# Altium schematic symbol library Crystal_SMD3225_4P.SchLib: 1 symbol
Pins are listed as number, name and electrical type; pins without a type are passive.

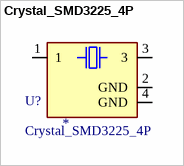
[diagram p0: symbol Crystal_SMD3225_4P]

## Crystal_SMD3225_4P
designator U?
SMD3225-4P Crystals ROHS; LCSC: *
footprint Crystal_SMD3225_4P
pins: 1, 2 GND (power), 3, 4 GND (power)